# Altium schematic symbol library INA217_SOIC.SchLib: 1 symbol
Pins are listed as number, name and electrical type; pins without a type are passive.

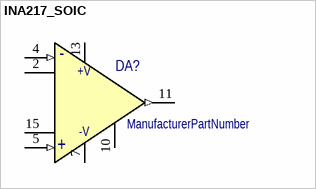
[diagram p0: symbol INA217_SOIC]

## INA217_SOIC
designator DA?  (value not drawn)
ManufacturerPartNumber: ManufacturerPartNumber
pins: 2, 4 (in), 5 (in), 7 -Vs (power), 10, 11 OUT (out), 13 +Vs (power), 15
1 alternate drawing of the same symbol
text: -; +V; -V; +